# EAGLE library part BCRXNN (library digital-transistors)
Dual NPN Silicon Digital Transistor Template
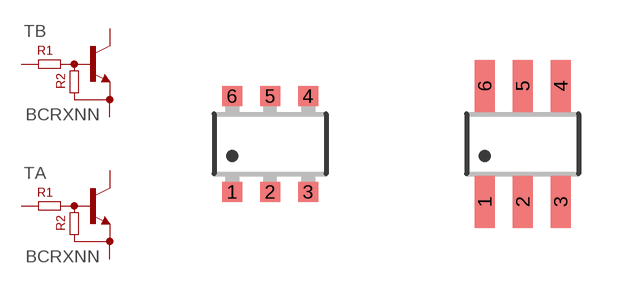
[diagram p4: symbol with the pads of SC74_INFINEON; footprints SC74_INFINEON, SC74-W_INFINEON]

Designator prefix T; gates A=DIGITRANS-NPN-R1-R2 B=DIGITRANS-NPN-R1-R2

## BCRXNNU  [SC74_INFINEON]
1  A:E  pas
2  A:B  pas
3  B:C  pas
4  B:E  pas
5  B:B  pas
6  A:C  pas

## BCRXNNU-W  [SC74-W_INFINEON]
Pads as for SC74_INFINEON

## BCRXNNS  [SOT363_INFINEON]
Pads as for SC74_INFINEON

## BCRXNNS-W  [SOT363-W_INFINEON]
Pads as for SC74_INFINEON

## Footprint SC74_INFINEON (pad centres in mm)
Small Outline Transistor; 6 leads, 2.9mm*2.5mm, reflow soldering INFINEON, http://www.infineon.com/upload/Image/Packages/gpw09197.gif INFINEON, http://www.infineon.com/upload/Image/Packages/hlg09327.gif
smd 0.5 x 0.5: 1 -0.95,-1.2; 2 0,-1.2; 3 0.95,-1.2; 4 0.95,1.2; 5 0,1.2; 6 -0.95,1.2

## Footprint SC74-W_INFINEON (pad centres in mm)
Small Outline Transistor; 6 leads, 2.9mm*2.5mm, wave soldering INFINEON, http://www.infineon.com/upload/Image/Packages/gpw09197.gif INFINEON, http://www.infineon.com/upload/Image/Packages/hlgf1054.gif
smd 0.5 x 1.3: 1 -0.95,-1.45; 2 0,-1.45; 3 0.95,-1.45; 4 0.95,1.45; 5 0,1.45; 6 -0.95,1.45

## Footprint SOT363_INFINEON (pad centres in mm)
Small Outline Transistor; 6 leads 2.0mm*2.1mm, Reflow soldering INFINEON, www.infineon.com/cmc_upload/0/000/010/257/eh_db_5b.pdf
smd 0.3 x 0.7: 1 -0.65,-0.8; 2 0,-0.8; 3 0.65,-0.8; 4 0.65,0.8; 5 0,0.8; 6 -0.65,0.8

## Footprint SOT363-W_INFINEON (pad centres in mm)
Small Outline Transistor; 6 leads, 2.0mm*2.1mm, wave soldering INFINEON, http://www.infineon.com/upload/Image/Packages/gps05604.gif INFINEON, http://www.infineon.com/upload/Image/Packages/hlg05827.gif
smd 0.3 x 1.3: 1 -0.65,-1.275; 2 0,-1.275; 3 0.65,-1.275; 4 0.65,1.275; 5 0,1.275; 6 -0.65,1.275